# Altium schematic symbol library Connectors.SchLib: 10 symbols
Pins are listed as number, name and electrical type; pins without a type are passive.

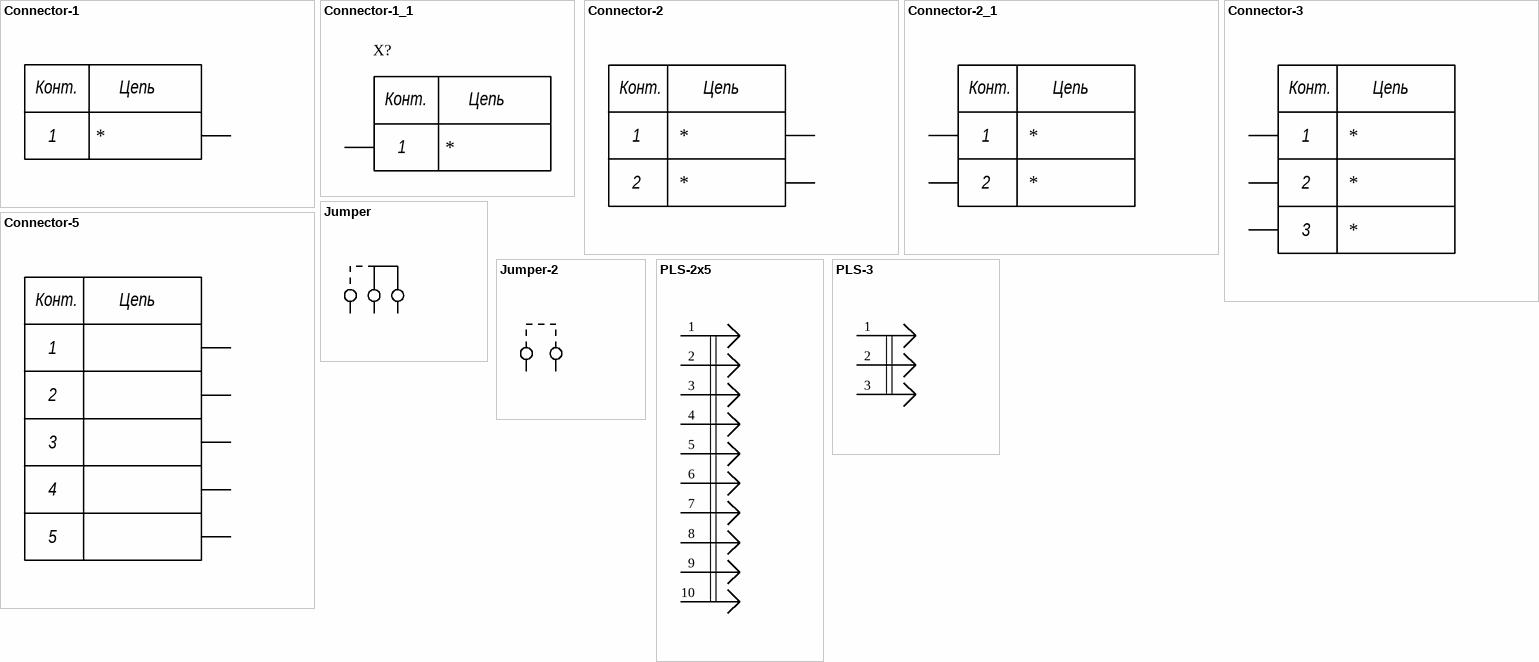
[diagram p0: symbols Connector-1 to PLS-3]

## Connector-1
designator X?
ComponentLink1Description: Product link; Name: *
footprint PCBM4
pins: 1
text: Конт.; Цепь

## Connector-1_1
designator X?
ComponentLink1Description: Product link; Name: *
footprint PCBM4
pins: 1
text: Конт.; Цепь

## Connector-2
designator X?, comment DG950-02
ComponentLink1Description: Product link; ComponentLink1URL: https://www.chipdip.ru/product/stps2h100a-2; Value 2: *; Value 1: *
footprint DG950-02
footprint KF300-5-2
pins: 1, 2
text: Конт.; Цепь

## Connector-2_1
designator X?, comment DG950-02
ComponentLink1Description: Product link; ComponentLink1URL: https://www.chipdip.ru/product/stps2h100a-2; Value 2: *; Value 1: *
footprint KF300-5-2
pins: 1, 2
text: Конт.; Цепь

## Connector-3
designator X?
ComponentLink1Description: Product link; ComponentLink1URL: https://www.chipdip.ru/product/stps2h100a-2; Value 3: *; Value 2: *; Value 1: *
footprint DG301-5-03
pins: 1, 2, 3
text: Конт.; Цепь

## Connector-5
designator X?
ComponentLink1Description: Product link; ComponentLink1URL: https://www.chipdip.ru/product/stps2h100a-2
footprint KLS300-5-6
pins: 1 *, 2 *, 3 *, 4 *, 5 *
text: Конт.; Цепь

## Jumper
designator S?
ComponentLink1Description: Product link; ComponentLink1URL: https://www.chipdip.ru/product/stps2h100a-2
footprint PLS3
pins: 1 4, 2 5, 3 6

## Jumper-2
designator S?
ComponentLink1Description: Product link; ComponentLink1URL: https://www.chipdip.ru/product/stps2h100a-2
footprint PLS2
pins: 1 4, 2 5

## PLS-2x5
designator X?
ComponentLink1Description: Product link
footprint PLS-2x5
pins: 1, 2, 3, 4, 5, 6, 7, 8, 9, 10

## PLS-3
designator X?
ComponentLink1Description: Product link
footprint PLS3
pins: 1, 2, 3